# EAGLE library part NC7W*38 (library fairchild-tinylogic)
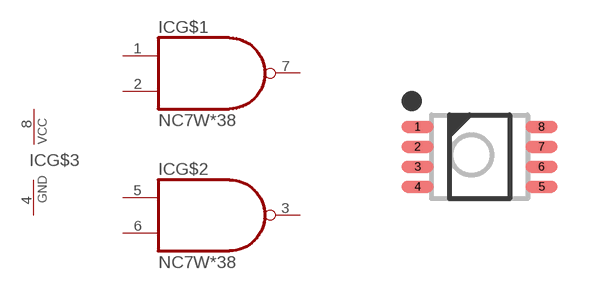
[diagram p24: symbol with the pads of TSSOP50P310X90-8N_MAB08A_US8; footprint TSSOP50P310X90-8N_MAB08A_US8]

Designator prefix IC; gates G$1=NAND G$2=NAND G$3=PWRN

## NC7WZ38K8X  [TSSOP50P310X90-8N_MAB08A_US8]
1  G$1:A  in
2  G$1:B  in
3  G$2:Y  out
4  G$3:GND  pwr
5  G$2:A  in
6  G$2:B  in
7  G$1:Y  out
8  G$3:VCC  pwr

## Footprint TSSOP50P310X90-8N_MAB08A_US8 (pad centres in mm)
smd 0.8 x 0.3: 1 -1.55,0.75; 2 -1.55,0.25; 3 -1.55,-0.25; 4 -1.55,-0.75; 5 1.55,-0.75; 6 1.55,-0.25; 7 1.55,0.25; 8 1.55,0.75